# Altium schematic symbol library Schematic_Connectors_USB.SchLib: 3 symbols
Pins are listed as number, name and electrical type; pins without a type are passive.

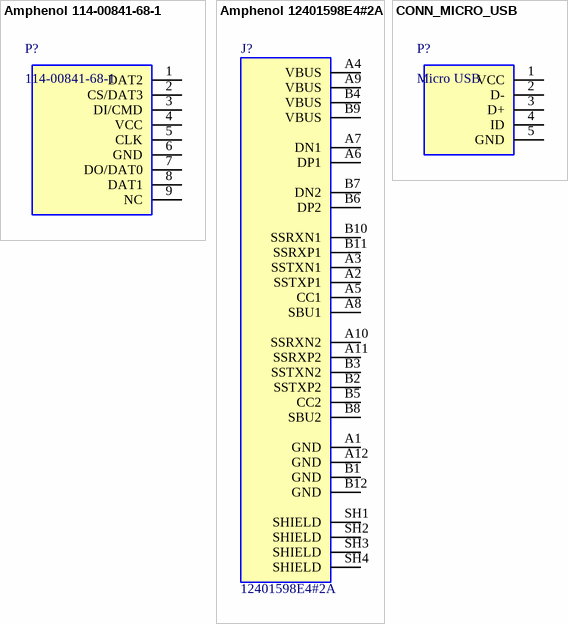
[diagram p0: symbols Amphenol 114-00841-68-1 to CONN_MICRO_USB]

## Amphenol 114-00841-68-1
designator P?, comment 114-00841-68-1
CONN MICRO SD CARD PUSH-PULL R/A; Manufacturer: Amphenol Commercial; Number of Contacts: 8; Connector Type: Connector; Gender: Receptacle; Pitch: 1.1mm; Supplier 1: Digi-Key; Manufacturer Part Number: 114-00841-68; Stock 1: 71075; Pricing 1: 1=1.31, 10=1.188, 25=1.1156, 50=1.0672, 100=1.0187, 250=0.9217, 500=0.8489 (USD); Mount: Surface Mount; Contact Material: Copper,Copper Alloy; Contact Plating: Gold; Housing Material: Polymer; Orientation: Right Angle; Package Quantity: 1; Packaging: Tape and Reel; Number of Rows: 1; Termination: SMD/SMT; Length: 15.6mm; Height: 1.55mm; Depth: 11.45mm; Radiation Hardening: No; REACH SVHC: Unknown; Lead Free: Lead Free; Flammability Rating: UL94 V-0; ComponentLink1URL: https://media.digikey.com/pdf/Data%20Sheets/Amphenol%20PDFs/114-00841-68.pdf?src-supplier=Digi-Key; ComponentLink1Description: https://media.digikey.com/pdf/Data%20Sheets/Amphenol%20PDFs/114-00841-68.pdf?src-supplier=Digi-Key; ComponentLink2URL: http://www.mouser.com/ds/2/18/11400841-283410.pdf?src-supplier=Mouser; ComponentLink2Description: http://www.mouser.com/ds/2/18/11400841-283410.pdf?src-supplier=Mouser; ComponentLink3URL: http://www.newark.com/pdfs/datasheets/Amphenol/11400841.pdf?src-supplier=Element14; ComponentLink3Description: http://www.newark.com/pdfs/datasheets/Amphenol/11400841.pdf?src-supplier=Element14; ComponentLink4URL: http://www.amphenolcanada.com/ProductSearch/drawings/AC/1140084168.pdf?src-supplier=Avnet; ComponentLink4Description: http://www.amphenolcanada.com/ProductSearch/drawings/AC/1140084168.pdf?src-supplier=Avnet; ComponentLink5URL: http://www.alliedelec.com/images/products/datasheets/bm/AMPHENOL_CANADA/70323450.pdf?src-supplier=Allied+Electronics; ComponentLink5Description: http://www.alliedelec.com/images/products/datasheets/bm/AMPHENOL_CANADA/70323450.pdf?src-supplier=Allied+Electronics
footprint Amphenol_114-00841-68 (Amphenol Micro SD Connector)
pins: 1 DAT2, 2 CS/DAT3, 3 DI/CMD, 4 VCC, 5 CLK, 6 GND, 7 DO/DAT0, 8 DAT1, 9 NC

## Amphenol 12401598E4#2A
designator J?, comment 12401598E4#2A
USB - C _Type - C_ USB 3.1 _USB 3.1 Gen 2, Superspeed+_ Receptacle Connector 24 Position Surface Mount, Right Angle; Through Hole; MF: Amphenol ICC; Price: None; Availability: Unavailable; Package: None; MP: 12401598E4#2A; SnapEDA_Link: https://www.snapeda.com/parts/12401598E4%232A/Amphenol%20ICC/view-part/2762372/?ref=snap; Value: *
footprint AMPHENOL_12401598E4#2A (USB Type C)
pins: A1 GND, A2 SSTXP1, A3 SSTXN1, A4 VBUS, A5 CC1, A6 DP1, A7 DN1, A8 SBU1, A9 VBUS, A10 SSRXN2, A11 SSRXP2, A12 GND, B1 GND, B2 SSTXP2, B3 SSTXN2, B4 VBUS, B5 CC2, B6 DP2, B7 DN2, B8 SBU2, B9 VBUS, B10 SSRXN1, B11 SSRXP1, B12 GND, SH1 SHIELD, SH2 SHIELD, SH3 SHIELD, SH4 SHIELD

## CONN_MICRO_USB
designator P?, comment Micro USB
General  Micro USB; Manufacture P/N: *
footprint EDAC_MINI_USB_690-005-299-043 (EDAC Mini USB Connector)
pins: 1 VCC, 2 D-, 3 D+, 4 ID, 5 GND